# Altium footprint library connector.PcbLib: 80 footprints (part 1 of 5)
Each footprint in its own frame and in the unit in brackets; x right, y up, seen from the top. Pads: shape width x height; smd on the part's side, far side on the other; paste and mask are expansions set on the pad; w line width, h text height; cw(c..) or ccw(c..) is an arc to the next point about the centre after c.
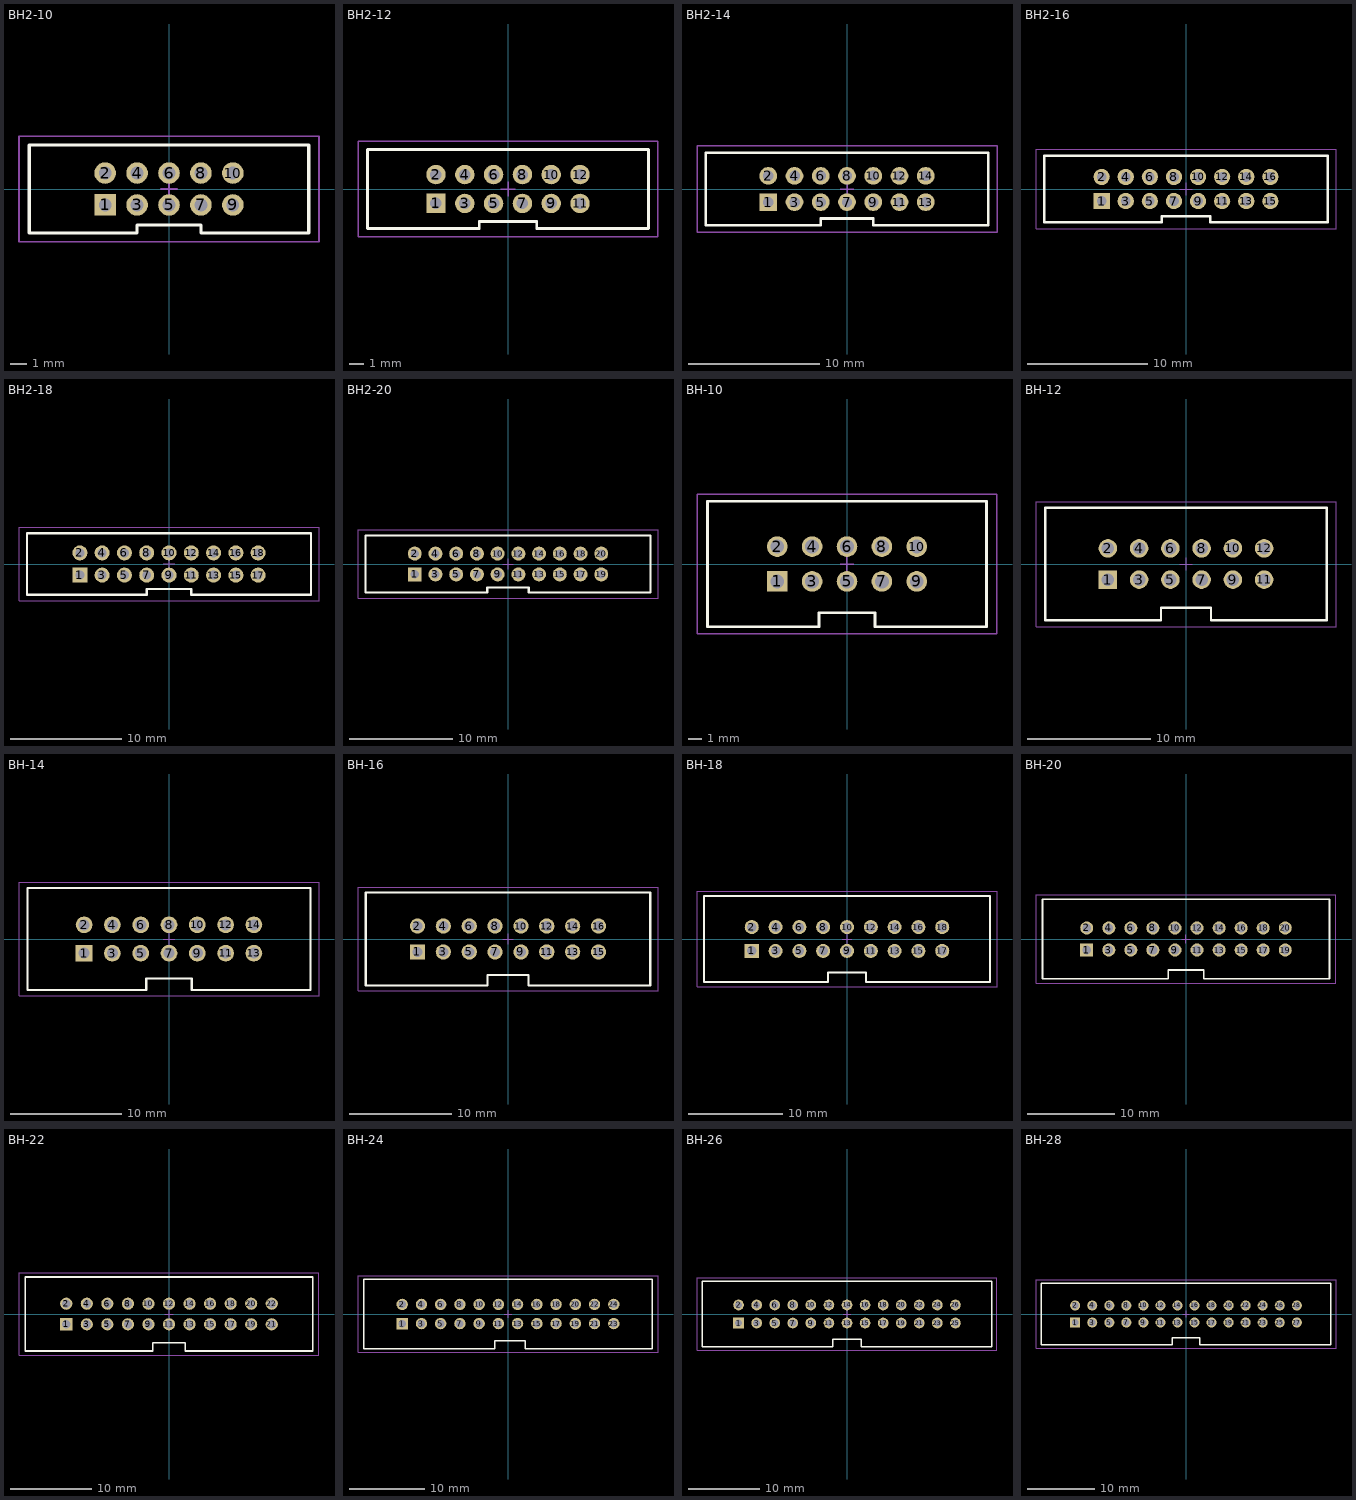
[diagram p0: the footprints below, top view; thin cyan lines are the x and y axes]

## BH2-10 [mm] "IDC2-XXMS Connector"
pads (10):
  rect 1.35x1.35 hole 0.8: 1(-4,-1)
  round 1.35 hole 0.8: 2(-4,1) 3(-2,-1) 4(-2,1) 5(0,-1) 6(0,1) 7(2,-1) 8(2,1) 9(4,-1) 10(4,1)
Top Overlay:
  lines w0.2: -8.75,-2.75 -8.75,2.75 8.75,2.75 8.75,-2.75 2,-2.75 2,-2.25 -2,-2.25 -2,-2.75 -8.75,-2.75
Mechanical 13:
  lines w0.1: -9.398,-3.302 9.398,-3.302 9.398,3.302 -9.398,3.302 -9.398,-3.302
  text ".Designator" at -2.286,-1.016 h2
Mechanical 15:
  lines w0.05: -9.398,-3.302 -9.398,3.302 9.398,3.302 9.398,-3.302 -9.398,-3.302
  lines w0.1: -0.5,0 0.5,0 ; 0,-0.5 0,0.5
3D body: height 5.8, standoff 0.1, extent 2,-2.75 8.75,-2.25
3D body: height 1, standoff 0.1, extent -8.25,-2.25 8.25,2.25
3D body: height 5.8, standoff 0.1, extent -8.75,-2.75 -2,-2.25
3D body: height 5.8, standoff 0.1, extent -8.758,2.25 8.75,2.75
3D body: height 5.8, standoff 0.1, extent -8.758,-2.25 -8.25,2.25
3D body: height 5.8, standoff 0.1, extent 8.25,-2.25 8.75,2.25
3D body: height 5.5, standoff -3.5, extent 3.75,0.75 4.25,1.25
3D body: height 5.5, standoff -3.5, extent 3.75,-1.25 4.25,-0.75
3D body: height 5.5, standoff -3.5, extent 1.75,0.75 2.25,1.25
3D body: height 5.5, standoff -3.5, extent 1.75,-1.25 2.25,-0.75
3D body: height 5.5, standoff -3.5, extent -0.25,0.75 0.25,1.25
3D body: height 5.5, standoff -3.5, extent -0.25,-1.25 0.25,-0.75
3D body: height 5.5, standoff -3.5, extent -2.25,0.75 -1.75,1.25
3D body: height 5.5, standoff -3.5, extent -2.25,-1.25 -1.75,-0.75
3D body: height 5.5, standoff -3.5, extent -4.25,0.75 -3.75,1.25
3D body: height 5.5, standoff -3.5, extent -4.25,-1.25 -3.75,-0.75

## BH2-12 [mm] "IDC2-XXMS Connector"
pads (12):
  rect 1.35x1.35 hole 0.8: 1(-5,-1)
  round 1.35 hole 0.8: 2(-5,1) 3(-3,-1) 4(-3,1) 5(-1,-1) 6(-1,1) 7(1,-1) 8(1,1) 9(3,-1) 10(3,1) 11(5,-1) 12(5,1)
Top Overlay:
  lines w0.2: -9.75,-2.75 -2,-2.75 -2,-2.25 2,-2.25 2,-2.75 9.75,-2.75 9.75,2.75 -9.75,2.75 -9.75,-2.75
Mechanical 13:
  lines w0.1: -10.414,-3.302 10.414,-3.302 10.414,3.302 -10.414,3.302 -10.414,-3.302
  text ".Designator" at -2.286,-1.016 h2
Mechanical 15:
  lines w0.05: -10.414,-3.302 -10.414,3.302 10.414,3.302 10.414,-3.302 -10.414,-3.302
  lines w0.1: -0.5,0 0.5,0 ; 0,-0.5 0,0.5
3D body: height 5.5, standoff -3.5, extent 4.75,-1.25 5.25,-0.75
3D body: height 5.5, standoff -3.5, extent 4.75,0.75 5.25,1.25
3D body: height 5.5, standoff -3.5, extent 2.75,-1.25 3.25,-0.75
3D body: height 5.5, standoff -3.5, extent 2.75,0.75 3.25,1.25
3D body: height 5.5, standoff -3.5, extent 0.75,-1.25 1.25,-0.75
3D body: height 5.5, standoff -3.5, extent 0.75,0.75 1.25,1.25
3D body: height 5.5, standoff -3.5, extent -1.25,-1.25 -0.75,-0.75
3D body: height 5.5, standoff -3.5, extent -1.25,0.75 -0.75,1.25
3D body: height 5.5, standoff -3.5, extent -3.25,-1.25 -2.75,-0.75
3D body: height 5.5, standoff -3.5, extent -3.25,0.75 -2.75,1.25
3D body: height 5.5, standoff -3.5, extent -5.25,-1.25 -4.75,-0.75
3D body: height 5.5, standoff -3.5, extent -5.25,0.75 -4.75,1.25
3D body: height 5.8, standoff 0.1, extent 2,-2.75 9.75,-2.25
3D body: height 5.8, standoff 0.1, extent 9.25,-2.25 9.75,2.25
3D body: height 5.8, standoff 0.1, extent -9.758,-2.25 -9.25,2.25
3D body: height 5.8, standoff 0.1, extent -9.758,2.25 9.75,2.75
3D body: height 5.8, standoff 0.1, extent -9.75,-2.75 -2,-2.25
3D body: height 1, standoff 0.1, extent -9.25,-2.25 9.25,2.25

## BH2-14 [mm] "IDC2-XXMS Connector"
pads (14):
  rect 1.35x1.35 hole 0.8: 1(-6,-1)
  round 1.35 hole 0.8: 2(-6,1) 3(-4,-1) 4(-4,1) 5(-2,-1) 6(-2,1) 7(0,-1) 8(0,1) 9(2,-1) 10(2,1) 11(4,-1) 12(4,1) 13(6,-1) 14(6,1)
Top Overlay:
  lines w0.2: -10.75,-2.75 -2,-2.75 -2,-2.25 2,-2.25 2,-2.75 10.75,-2.75 10.75,2.75 -10.75,2.75 -10.75,-2.75
Mechanical 13:
  lines w0.1: -11.43,-3.302 -11.43,3.302 11.43,3.302 11.43,-3.302 -11.43,-3.302
  text ".Designator" at -2.286,-1.016 h2
Mechanical 15:
  lines w0.05: -11.43,-3.302 -11.43,3.302 11.43,3.302 11.43,-3.302 -11.43,-3.302
  lines w0.1: -0.5,0 0.5,0 ; 0,-0.5 0,0.5
3D body: height 5.8, standoff 0.1, extent 2,-2.75 10.75,-2.25
3D body: height 5.8, standoff 0.1, extent 10.25,-2.25 10.75,2.25
3D body: height 5.8, standoff 0.1, extent -10.758,-2.25 -10.25,2.25
3D body: height 5.8, standoff 0.1, extent -10.758,2.25 10.75,2.75
3D body: height 5.8, standoff 0.1, extent -10.75,-2.75 -2,-2.25
3D body: height 1, standoff 0.1, extent -10.25,-2.25 10.25,2.25
3D body: height 5.5, standoff -3.5, extent 5.75,0.75 6.25,1.25
3D body: height 5.5, standoff -3.5, extent 5.75,-1.25 6.25,-0.75
3D body: height 5.5, standoff -3.5, extent 3.75,0.75 4.25,1.25
3D body: height 5.5, standoff -3.5, extent 3.75,-1.25 4.25,-0.75
3D body: height 5.5, standoff -3.5, extent 1.75,0.75 2.25,1.25
3D body: height 5.5, standoff -3.5, extent 1.75,-1.25 2.25,-0.75
3D body: height 5.5, standoff -3.5, extent -0.25,0.75 0.25,1.25
3D body: height 5.5, standoff -3.5, extent -0.25,-1.25 0.25,-0.75
3D body: height 5.5, standoff -3.5, extent -2.25,0.75 -1.75,1.25
3D body: height 5.5, standoff -3.5, extent -2.25,-1.25 -1.75,-0.75
3D body: height 5.5, standoff -3.5, extent -4.25,0.75 -3.75,1.25
3D body: height 5.5, standoff -3.5, extent -4.25,-1.25 -3.75,-0.75
3D body: height 5.5, standoff -3.5, extent -6.25,0.75 -5.75,1.25
3D body: height 5.5, standoff -3.5, extent -6.25,-1.25 -5.75,-0.75

## BH2-16 [mm] "IDC2-XXMS Connector"
pads (16):
  rect 1.35x1.35 hole 0.8: 1(-7,-1)
  round 1.35 hole 0.8: 2(-7,1) 3(-5,-1) 4(-5,1) 5(-3,-1) 6(-3,1) 7(-1,-1) 8(-1,1) 9(1,-1) 10(1,1) 11(3,-1) 12(3,1) 13(5,-1) 14(5,1) 15(7,-1) 16(7,1)
Top Overlay:
  lines w0.2: -11.75,-2.75 -2,-2.75 -2,-2.25 2,-2.25 2,-2.75 11.75,-2.75 11.75,2.75 -11.75,2.75 -11.75,-2.75
Mechanical 13:
  lines w0.1: -12.446,-3.302 12.446,-3.302 12.446,3.302 -12.446,3.302 -12.446,-3.302
  text ".Designator" at -2.286,-1.016 h2
Mechanical 15:
  lines w0.05: -12.446,-3.302 -12.446,3.302 12.446,3.302 12.446,-3.302 -12.446,-3.302
  lines w0.1: -0.5,0 0.5,0 ; 0,-0.5 0,0.5
3D body: height 5.5, standoff -3.5, extent 6.75,-1.25 7.25,-0.75
3D body: height 5.5, standoff -3.5, extent 6.75,0.75 7.25,1.25
3D body: height 5.5, standoff -3.5, extent 4.75,-1.25 5.25,-0.75
3D body: height 5.5, standoff -3.5, extent 4.75,0.75 5.25,1.25
3D body: height 5.5, standoff -3.5, extent 2.75,-1.25 3.25,-0.75
3D body: height 5.5, standoff -3.5, extent 2.75,0.75 3.25,1.25
3D body: height 5.5, standoff -3.5, extent 0.75,-1.25 1.25,-0.75
3D body: height 5.5, standoff -3.5, extent 0.75,0.75 1.25,1.25
3D body: height 5.5, standoff -3.5, extent -1.25,-1.25 -0.75,-0.75
3D body: height 5.5, standoff -3.5, extent -1.25,0.75 -0.75,1.25
3D body: height 5.5, standoff -3.5, extent -3.25,-1.25 -2.75,-0.75
3D body: height 5.5, standoff -3.5, extent -3.25,0.75 -2.75,1.25
3D body: height 5.5, standoff -3.5, extent -5.25,-1.25 -4.75,-0.75
3D body: height 5.5, standoff -3.5, extent -5.25,0.75 -4.75,1.25
3D body: height 5.5, standoff -3.5, extent -7.25,-1.25 -6.75,-0.75
3D body: height 5.5, standoff -3.5, extent -7.25,0.75 -6.75,1.25
3D body: height 5.8, standoff 0.1, extent 2,-2.75 11.75,-2.25
3D body: height 5.8, standoff 0.1, extent 11.25,-2.25 11.75,2.25
3D body: height 5.8, standoff 0.1, extent -11.758,-2.25 -11.25,2.25
3D body: height 5.8, standoff 0.1, extent -11.758,2.25 11.75,2.75
3D body: height 5.8, standoff 0.1, extent -11.75,-2.75 -2,-2.25
3D body: height 1, standoff 0.1, extent -11.25,-2.25 11.25,2.25

## BH2-18 [mm] "IDC2-XXMS Connector"
pads (18):
  rect 1.35x1.35 hole 0.8: 1(-8,-1)
  round 1.35 hole 0.8: 2(-8,1) 3(-6,-1) 4(-6,1) 5(-4,-1) 6(-4,1) 7(-2,-1) 8(-2,1) 9(0,-1) 10(0,1) 11(2,-1) 12(2,1) 13(4,-1) 14(4,1) 15(6,-1) 16(6,1) 17(8,-1) 18(8,1)
Top Overlay:
  lines w0.2: -12.75,-2.75 -2,-2.75 -2,-2.25 2,-2.25 2,-2.75 12.75,-2.75 12.75,2.75 -12.75,2.75 -12.75,-2.75
Mechanical 13:
  lines w0.1: -13.462,-3.302 -13.462,3.302 13.462,3.302 13.462,-3.302 -13.462,-3.302
  text ".Designator" at -2.286,-1.016 h2
Mechanical 15:
  lines w0.05: -13.462,-3.302 -13.462,3.302 13.462,3.302 13.462,-3.302 -13.462,-3.302
  lines w0.1: -0.5,0 0.5,0 ; 0,-0.5 0,0.5
3D body: height 5.8, standoff 0.1, extent 2,-2.75 12.75,-2.25
3D body: height 5.8, standoff 0.1, extent 12.25,-2.25 12.75,2.25
3D body: height 5.8, standoff 0.1, extent -12.758,-2.25 -12.25,2.25
3D body: height 5.8, standoff 0.1, extent -12.758,2.25 12.75,2.75
3D body: height 5.8, standoff 0.1, extent -12.75,-2.75 -2,-2.25
3D body: height 1, standoff 0.1, extent -12.25,-2.25 12.25,2.25
3D body: height 5.5, standoff -3.5, extent -8.25,0.75 -7.75,1.25
3D body: height 5.5, standoff -3.5, extent -8.25,-1.25 -7.75,-0.75
3D body: height 5.5, standoff -3.5, extent -6.25,0.75 -5.75,1.25
3D body: height 5.5, standoff -3.5, extent -6.25,-1.25 -5.75,-0.75
3D body: height 5.5, standoff -3.5, extent -4.25,0.75 -3.75,1.25
3D body: height 5.5, standoff -3.5, extent -4.25,-1.25 -3.75,-0.75
3D body: height 5.5, standoff -3.5, extent -2.25,0.75 -1.75,1.25
3D body: height 5.5, standoff -3.5, extent -2.25,-1.25 -1.75,-0.75
3D body: height 5.5, standoff -3.5, extent -0.25,0.75 0.25,1.25
3D body: height 5.5, standoff -3.5, extent -0.25,-1.25 0.25,-0.75
3D body: height 5.5, standoff -3.5, extent 1.75,0.75 2.25,1.25
3D body: height 5.5, standoff -3.5, extent 1.75,-1.25 2.25,-0.75
3D body: height 5.5, standoff -3.5, extent 3.75,0.75 4.25,1.25
3D body: height 5.5, standoff -3.5, extent 3.75,-1.25 4.25,-0.75
3D body: height 5.5, standoff -3.5, extent 5.75,0.75 6.25,1.25
3D body: height 5.5, standoff -3.5, extent 5.75,-1.25 6.25,-0.75
3D body: height 5.5, standoff -3.5, extent 7.75,0.75 8.25,1.25
3D body: height 5.5, standoff -3.5, extent 7.75,-1.25 8.25,-0.75

## BH2-20 [mm] "IDC2-XXMS Connector"
pads (20):
  rect 1.35x1.35 hole 0.8: 1(-9,-1)
  round 1.35 hole 0.8: 2(-9,1) 3(-7,-1) 4(-7,1) 5(-5,-1) 6(-5,1) 7(-3,-1) 8(-3,1) 9(-1,-1) 10(-1,1) 11(1,-1) 12(1,1) 13(3,-1) 14(3,1) 15(5,-1) 16(5,1) 17(7,-1) 18(7,1) 19(9,-1) 20(9,1)
Top Overlay:
  lines w0.2: -13.75,-2.75 -2,-2.75 -2,-2.25 2,-2.25 2,-2.75 13.75,-2.75 13.75,2.75 -13.75,2.75 -13.75,-2.75
Mechanical 13:
  lines w0.1: -14.478,-3.302 -14.478,3.302 14.478,3.302 14.478,-3.302 -14.478,-3.302
  text ".Designator" at -2.286,-1.016 h2
Mechanical 15:
  lines w0.05: -14.478,-3.302 -14.478,3.302 14.478,3.302 14.478,-3.302 -14.478,-3.302
  lines w0.1: -0.5,0 0.5,0 ; 0,-0.5 0,0.5
3D body: height 5.5, standoff -3.5, extent 8.75,-1.25 9.25,-0.75
3D body: height 5.5, standoff -3.5, extent 8.75,0.75 9.25,1.25
3D body: height 5.5, standoff -3.5, extent 6.75,0.75 7.25,1.25
3D body: height 5.5, standoff -3.5, extent 6.75,-1.25 7.25,-0.75
3D body: height 5.5, standoff -3.5, extent 4.75,-1.25 5.25,-0.75
3D body: height 5.5, standoff -3.5, extent 4.75,0.75 5.25,1.25
3D body: height 5.5, standoff -3.5, extent 2.75,0.75 3.25,1.25
3D body: height 5.5, standoff -3.5, extent 2.75,-1.25 3.25,-0.75
3D body: height 5.5, standoff -3.5, extent 0.75,-1.25 1.25,-0.75
3D body: height 5.5, standoff -3.5, extent 0.75,0.75 1.25,1.25
3D body: height 5.5, standoff -3.5, extent -1.25,0.75 -0.75,1.25
3D body: height 5.5, standoff -3.5, extent -1.25,-1.25 -0.75,-0.75
3D body: height 5.5, standoff -3.5, extent -3.25,0.75 -2.75,1.25
3D body: height 5.5, standoff -3.5, extent -3.25,-1.25 -2.75,-0.75
3D body: height 5.5, standoff -3.5, extent -5.25,-1.25 -4.75,-0.75
3D body: height 5.5, standoff -3.5, extent -5.25,0.75 -4.75,1.25
3D body: height 5.5, standoff -3.5, extent -7.25,0.75 -6.75,1.25
3D body: height 5.5, standoff -3.5, extent -7.25,-1.25 -6.75,-0.75
3D body: height 5.5, standoff -3.5, extent -9.25,0.75 -8.75,1.25
3D body: height 5.5, standoff -3.5, extent -9.25,-1.25 -8.75,-0.75
3D body: height 1, standoff 0.1, extent -13.25,-2.25 13.25,2.25
3D body: height 5.8, standoff 0.1, extent -13.75,-2.75 -2,-2.25
3D body: height 5.8, standoff 0.1, extent 1.996,-2.746 13.75,-2.25
3D body: height 5.8, standoff 0.1, extent -13.758,2.25 13.75,2.75
3D body: height 5.8, standoff 0.1, extent -13.758,-2.25 -13.25,2.25
3D body: height 5.8, standoff 0.1, extent 13.25,-2.25 13.75,2.25

## BH-10 [mm]
pads (10):
  rect 1.5x1.5 hole 1: 1(-5.08,-1.27)
  round 1.5 hole 1: 2(-5.08,1.27) 3(-2.54,-1.27) 4(-2.54,1.27) 5(0,-1.27) 6(0,1.27) 7(2.54,-1.27) 8(2.54,1.27) 9(5.08,-1.27) 10(5.08,1.27)
Top Overlay:
  lines w0.2: -10.16,-4.572 -10.16,4.572 10.16,4.572 10.16,-4.572 2.032,-4.572 2.032,-3.556 -2.032,-3.556 -2.032,-4.572 -10.16,-4.572
Mechanical 13:
  lines w0.1: -10.922,-5.08 10.922,-5.08 10.922,5.08 -10.922,5.08 -10.922,-5.08
  text ".Designator" at -2.286,-1.016 h2
Mechanical 15:
  lines w0.05: -10.922,-5.08 10.922,-5.08 10.922,5.08 -10.922,5.08 -10.922,-5.08
  lines w0.1: -0.5,0 0.5,0 ; 0,-0.5 0,0.5
3D body: height 8.5, standoff -3, extent 4.699,0.889 5.461,1.651
3D body: height 8.5, standoff -3, extent 4.699,-1.651 5.461,-0.889
3D body: height 8.5, standoff -3, extent 2.159,-1.651 2.921,-0.889
3D body: height 8.5, standoff -3, extent 2.159,0.889 2.921,1.651
3D body: height 8.5, standoff -3, extent -0.381,0.889 0.381,1.651
3D body: height 8.5, standoff -3, extent -0.381,-1.651 0.381,-0.889
3D body: height 8.5, standoff -3, extent -2.921,0.889 -2.159,1.651
3D body: height 8.5, standoff -3, extent -2.921,-1.651 -2.159,-0.889
3D body: height 8.5, standoff -3, extent -5.461,-1.651 -4.699,-0.889
3D body: height 8.5, standoff -3, extent -5.461,0.889 -4.699,1.651
3D body: height 9, standoff 1, extent 9.144,-3.556 10.16,3.556
3D body: height 9, standoff 1, extent -10.16,-3.556 -9.144,3.556
3D body: height 9, standoff 1, extent -10.16,3.556 10.16,4.572
3D body: height 9, standoff 1, extent 2.032,-4.572 10.16,-3.556
3D body: height 9, standoff 1, extent -10.16,-4.572 -2.032,-3.556
3D body: height 1, standoff 0, extent -10.16,-4.572 10.16,4.572

## BH-12 [mm]
pads (12):
  rect 1.5x1.5 hole 1: 1(-6.35,-1.27)
  round 1.5 hole 1: 2(-6.35,1.27) 3(-3.81,-1.27) 4(-3.81,1.27) 5(-1.27,-1.27) 6(-1.27,1.27) 7(1.27,-1.27) 8(1.27,1.27) 9(3.81,-1.27) 10(3.81,1.27) 11(6.35,-1.27) 12(6.35,1.27)
Top Overlay:
  lines w0.2: -11.43,-4.572 -11.43,4.572 11.43,4.572 11.43,-4.572 2.032,-4.572 2.032,-3.556 -2.032,-3.556 -2.032,-4.572 -11.43,-4.572
Mechanical 13:
  lines w0.1: -12.192,-5.08 12.192,-5.08 12.192,5.08 -12.192,5.08 -12.192,-5.08
  text ".Designator" at -2.286,-1.016 h2
Mechanical 15:
  lines w0.05: -12.192,-5.08 12.192,-5.08 12.192,5.08 -12.192,5.08 -12.192,-5.08
  lines w0.1: -0.5,0 0.5,0 ; 0,-0.5 0,0.5
3D body: height 8.5, standoff -3, extent 5.969,0.889 6.731,1.651
3D body: height 8.5, standoff -3, extent 5.969,-1.651 6.731,-0.889
3D body: height 8.5, standoff -3, extent 3.429,0.889 4.191,1.651
3D body: height 8.5, standoff -3, extent 3.429,-1.651 4.191,-0.889
3D body: height 8.5, standoff -3, extent 0.889,0.889 1.651,1.651
3D body: height 8.5, standoff -3, extent 0.889,-1.651 1.651,-0.889
3D body: height 8.5, standoff -3, extent -1.651,0.889 -0.889,1.651
3D body: height 8.5, standoff -3, extent -1.651,-1.651 -0.889,-0.889
3D body: height 8.5, standoff -3, extent -4.191,0.889 -3.429,1.651
3D body: height 8.5, standoff -3, extent -4.191,-1.651 -3.429,-0.889
3D body: height 8.5, standoff -3, extent -6.731,0.889 -5.969,1.651
3D body: height 8.5, standoff -3, extent -6.731,-1.651 -5.969,-0.889
3D body: height 1, standoff 0, extent -11.43,-4.572 11.43,4.572
3D body: height 9, standoff 1, extent -11.43,-4.572 -2.032,-3.556
3D body: height 9, standoff 1, extent 2.032,-4.572 11.43,-3.556
3D body: height 9, standoff 1, extent -11.43,3.556 11.43,4.572
3D body: height 9, standoff 1, extent -11.43,-3.556 -10.414,3.556
3D body: height 9, standoff 1, extent 10.414,-3.556 11.43,3.556

## BH-14 [mm]
pads (14):
  rect 1.5x1.5 hole 1: 1(-7.62,-1.27)
  round 1.5 hole 1: 2(-7.62,1.27) 3(-5.08,-1.27) 4(-5.08,1.27) 5(-2.54,-1.27) 6(-2.54,1.27) 7(0,-1.27) 8(0,1.27) 9(2.54,-1.27) 10(2.54,1.27) 11(5.08,-1.27) 12(5.08,1.27) 13(7.62,-1.27) 14(7.62,1.27)
Top Overlay:
  lines w0.2: -12.7,-4.572 -2.032,-4.572 -2.032,-3.556 2.032,-3.556 2.032,-4.572 12.7,-4.572 12.7,4.572 -12.7,4.572 -12.7,-4.572
Mechanical 13:
  lines w0.1: -13.462,-5.08 -13.462,5.08 13.462,5.08 13.462,-5.08 -13.462,-5.08
  text ".Designator" at -2.286,-1.016 h2
Mechanical 15:
  lines w0.05: -13.462,-5.08 -13.462,5.08 13.462,5.08 13.462,-5.08 -13.462,-5.08
  lines w0.1: -0.5,0 0.5,0 ; 0,-0.5 0,0.5
3D body: height 1, standoff 0, extent -12.7,-4.572 12.7,4.572
3D body: height 9, standoff 1, extent -12.7,-4.572 -2.032,-3.556
3D body: height 9, standoff 1, extent 2.032,-4.572 12.7,-3.556
3D body: height 9, standoff 1, extent -12.7,3.556 12.7,4.572
3D body: height 9, standoff 1, extent -12.7,-3.556 -11.684,3.556
3D body: height 9, standoff 1, extent 11.684,-3.556 12.7,3.556
3D body: height 8.5, standoff -3, extent -8.001,-1.651 -7.239,-0.889
3D body: height 8.5, standoff -3, extent -8.001,0.889 -7.239,1.651
3D body: height 8.5, standoff -3, extent -5.461,-1.651 -4.699,-0.889
3D body: height 8.5, standoff -3, extent -5.461,0.889 -4.699,1.651
3D body: height 8.5, standoff -3, extent -2.921,-1.651 -2.159,-0.889
3D body: height 8.5, standoff -3, extent -2.921,0.889 -2.159,1.651
3D body: height 8.5, standoff -3, extent -0.381,-1.651 0.381,-0.889
3D body: height 8.5, standoff -3, extent -0.381,0.889 0.381,1.651
3D body: height 8.5, standoff -3, extent 2.159,-1.651 2.921,-0.889
3D body: height 8.5, standoff -3, extent 2.159,0.889 2.921,1.651
3D body: height 8.5, standoff -3, extent 4.699,-1.651 5.461,-0.889
3D body: height 8.5, standoff -3, extent 4.699,0.889 5.461,1.651
3D body: height 8.5, standoff -3, extent 7.239,-1.651 8.001,-0.889
3D body: height 8.5, standoff -3, extent 7.239,0.889 8.001,1.651

## BH-16 [mm]
pads (16):
  rect 1.5x1.5 hole 1: 1(-8.89,-1.27)
  round 1.5 hole 1: 2(-8.89,1.27) 3(-6.35,-1.27) 4(-6.35,1.27) 5(-3.81,-1.27) 6(-3.81,1.27) 7(-1.27,-1.27) 8(-1.27,1.27) 9(1.27,-1.27) 10(1.27,1.27) 11(3.81,-1.27) 12(3.81,1.27) 13(6.35,-1.27) 14(6.35,1.27) 15(8.89,-1.27) 16(8.89,1.27)
Top Overlay:
  lines w0.2: -13.97,-4.572 -13.97,4.572 13.97,4.572 13.97,-4.572 2.032,-4.572 2.032,-3.556 -2.032,-3.556 -2.032,-4.572 -13.97,-4.572
Mechanical 13:
  lines w0.1: -14.732,-5.08 -14.732,5.08 14.732,5.08 14.732,-5.08 -14.732,-5.08
  text ".Designator" at -2.286,-1.016 h2
Mechanical 15:
  lines w0.05: -14.732,-5.08 -14.732,5.08 14.732,5.08 14.732,-5.08 -14.732,-5.08
  lines w0.1: -0.5,0 0.5,0 ; 0,-0.5 0,0.5
3D body: height 8.5, standoff -3, extent 8.509,0.889 9.271,1.651
3D body: height 8.5, standoff -3, extent 8.509,-1.651 9.271,-0.889
3D body: height 8.5, standoff -3, extent 5.969,0.889 6.731,1.651
3D body: height 8.5, standoff -3, extent 5.969,-1.651 6.731,-0.889
3D body: height 8.5, standoff -3, extent 3.429,0.889 4.191,1.651
3D body: height 8.5, standoff -3, extent 3.429,-1.651 4.191,-0.889
3D body: height 8.5, standoff -3, extent 0.889,0.889 1.651,1.651
3D body: height 8.5, standoff -3, extent 0.889,-1.651 1.651,-0.889
3D body: height 8.5, standoff -3, extent -1.651,0.889 -0.889,1.651
3D body: height 8.5, standoff -3, extent -1.651,-1.651 -0.889,-0.889
3D body: height 8.5, standoff -3, extent -4.191,0.889 -3.429,1.651
3D body: height 8.5, standoff -3, extent -4.191,-1.651 -3.429,-0.889
3D body: height 8.5, standoff -3, extent -6.731,0.889 -5.969,1.651
3D body: height 8.5, standoff -3, extent -6.731,-1.651 -5.969,-0.889
3D body: height 8.5, standoff -3, extent -9.271,0.889 -8.509,1.651
3D body: height 8.5, standoff -3, extent -9.271,-1.651 -8.509,-0.889
3D body: height 1, standoff 0, extent -13.97,-4.572 13.97,4.572
3D body: height 9, standoff 1, extent -13.97,-4.572 -2.032,-3.556
3D body: height 9, standoff 1, extent 2.032,-4.572 13.97,-3.556
3D body: height 9, standoff 1, extent -13.97,3.556 13.97,4.572
3D body: height 9, standoff 1, extent -13.97,-3.556 -12.954,3.556
3D body: height 9, standoff 1, extent 12.954,-3.556 13.97,3.556

## BH-18 [mm]
pads (18):
  rect 1.5x1.5 hole 1: 1(-10.16,-1.27)
  round 1.5 hole 1: 2(-10.16,1.27) 3(-7.62,-1.27) 4(-7.62,1.27) 5(-5.08,-1.27) 6(-5.08,1.27) 7(-2.54,-1.27) 8(-2.54,1.27) 9(0,-1.27) 10(0,1.27) 11(2.54,-1.27) 12(2.54,1.27) 13(5.08,-1.27) 14(5.08,1.27) 15(7.62,-1.27) 16(7.62,1.27) 17(10.16,-1.27) 18(10.16,1.27)
Top Overlay:
  lines w0.2: -15.24,-4.572 -15.24,4.572 15.24,4.572 15.24,-4.572 2.032,-4.572 2.032,-3.556 -2.032,-3.556 -2.032,-4.572 -15.24,-4.572
Mechanical 13:
  lines w0.1: -16.002,-5.08 16.002,-5.08 16.002,5.08 -16.002,5.08 -16.002,-5.08
  text ".Designator" at -2.286,-1.016 h2
Mechanical 15:
  lines w0.05: -16.002,-5.08 16.002,-5.08 16.002,5.08 -16.002,5.08 -16.002,-5.08
  lines w0.1: -0.5,0 0.5,0 ; 0,-0.5 0,0.5
3D body: height 8.5, standoff -3, extent 9.779,0.889 10.541,1.651
3D body: height 8.5, standoff -3, extent 9.779,-1.651 10.541,-0.889
3D body: height 8.5, standoff -3, extent 7.239,0.889 8.001,1.651
3D body: height 8.5, standoff -3, extent 7.239,-1.651 8.001,-0.889
3D body: height 8.5, standoff -3, extent 4.699,0.889 5.461,1.651
3D body: height 8.5, standoff -3, extent 4.699,-1.651 5.461,-0.889
3D body: height 8.5, standoff -3, extent 2.159,0.889 2.921,1.651
3D body: height 8.5, standoff -3, extent 2.159,-1.651 2.921,-0.889
3D body: height 8.5, standoff -3, extent -0.381,0.889 0.381,1.651
3D body: height 8.5, standoff -3, extent -0.381,-1.651 0.381,-0.889
3D body: height 8.5, standoff -3, extent -2.921,0.889 -2.159,1.651
3D body: height 8.5, standoff -3, extent -2.921,-1.651 -2.159,-0.889
3D body: height 8.5, standoff -3, extent -5.461,0.889 -4.699,1.651
3D body: height 8.5, standoff -3, extent -5.461,-1.651 -4.699,-0.889
3D body: height 8.5, standoff -3, extent -8.001,0.889 -7.239,1.651
3D body: height 8.5, standoff -3, extent -8.001,-1.651 -7.239,-0.889
3D body: height 8.5, standoff -3, extent -10.541,0.889 -9.779,1.651
3D body: height 8.5, standoff -3, extent -10.541,-1.651 -9.779,-0.889
3D body: height 9, standoff 1, extent 14.224,-3.556 15.24,3.556
3D body: height 9, standoff 1, extent -15.24,-3.556 -14.224,3.556
3D body: height 9, standoff 1, extent -15.24,3.556 15.24,4.572
3D body: height 9, standoff 1, extent 2.032,-4.572 15.24,-3.556
3D body: height 9, standoff 1, extent -15.24,-4.572 -2.032,-3.556
3D body: height 1, standoff 0, extent -15.24,-4.572 15.24,4.572

## BH-20 [mm]
pads (20):
  rect 1.5x1.5 hole 1: 1(-11.43,-1.27)
  round 1.5 hole 1: 2(-11.43,1.27) 3(-8.89,-1.27) 4(-8.89,1.27) 5(-6.35,-1.27) 6(-6.35,1.27) 7(-3.81,-1.27) 8(-3.81,1.27) 9(-1.27,-1.27) 10(-1.27,1.27) 11(1.27,-1.27) 12(1.27,1.27) 13(3.81,-1.27) 14(3.81,1.27) 15(6.35,-1.27) 16(6.35,1.27) 17(8.89,-1.27) 18(8.89,1.27) 19(11.43,-1.27) 20(11.43,1.27)
Top Overlay:
  lines w0.2: -16.51,-4.572 -2.032,-4.572 -2.032,-3.556 2.032,-3.556 2.032,-4.572 16.51,-4.572 16.51,4.572 -16.51,4.572 -16.51,-4.572
Mechanical 13:
  lines w0.1: -17.272,-5.08 17.272,-5.08 17.272,5.08 -17.272,5.08 -17.272,-5.08
  text ".Designator" at -2.032,-1.016 h2
Mechanical 15:
  lines w0.05: -17.272,-5.08 -17.272,5.08 17.272,5.08 17.272,-5.08 -17.272,-5.08
  lines w0.1: -0.5,0 0.5,0 ; 0,-0.5 0,0.5
3D body: height 1, standoff 0, extent -16.51,-4.572 16.51,4.572
3D body: height 9, standoff 1, extent -16.51,-4.572 -2.032,-3.556
3D body: height 9, standoff 1, extent 2.032,-4.572 16.51,-3.556
3D body: height 9, standoff 1, extent -16.51,3.556 16.51,4.572
3D body: height 9, standoff 1, extent -16.51,-3.556 -15.494,3.556
3D body: height 9, standoff 1, extent 15.494,-3.556 16.51,3.556
3D body: height 8.5, standoff -3, extent -11.811,-1.651 -11.049,-0.889
3D body: height 8.5, standoff -3, extent -11.811,0.889 -11.049,1.651
3D body: height 8.5, standoff -3, extent -9.271,-1.651 -8.509,-0.889
3D body: height 8.5, standoff -3, extent -9.271,0.889 -8.509,1.651
3D body: height 8.5, standoff -3, extent -6.731,-1.651 -5.969,-0.889
3D body: height 8.5, standoff -3, extent -6.731,0.889 -5.969,1.651
3D body: height 8.5, standoff -3, extent -4.191,-1.651 -3.429,-0.889
3D body: height 8.5, standoff -3, extent -4.191,0.889 -3.429,1.651
3D body: height 8.5, standoff -3, extent -1.651,-1.651 -0.889,-0.889
3D body: height 8.5, standoff -3, extent -1.651,0.889 -0.889,1.651
3D body: height 8.5, standoff -3, extent 0.889,-1.651 1.651,-0.889
3D body: height 8.5, standoff -3, extent 0.889,0.889 1.651,1.651
3D body: height 8.5, standoff -3, extent 3.429,-1.651 4.191,-0.889
3D body: height 8.5, standoff -3, extent 3.429,0.889 4.191,1.651
3D body: height 8.5, standoff -3, extent 5.969,-1.651 6.731,-0.889
3D body: height 8.5, standoff -3, extent 5.969,0.889 6.731,1.651
3D body: height 8.5, standoff -3, extent 8.509,-1.651 9.271,-0.889
3D body: height 8.5, standoff -3, extent 8.509,0.889 9.271,1.651
3D body: height 8.5, standoff -3, extent 11.049,-1.651 11.811,-0.889
3D body: height 8.5, standoff -3, extent 11.049,0.889 11.811,1.651

## BH-22 [mm]
pads (22):
  rect 1.5x1.5 hole 1: 1(-12.7,-1.27)
  round 1.5 hole 1: 2(-12.7,1.27) 3(-10.16,-1.27) 4(-10.16,1.27) 5(-7.62,-1.27) 6(-7.62,1.27) 7(-5.08,-1.27) 8(-5.08,1.27) 9(-2.54,-1.27) 10(-2.54,1.27) 11(0,-1.27) 12(0,1.27) 13(2.54,-1.27) 14(2.54,1.27) 15(5.08,-1.27) 16(5.08,1.27) 17(7.62,-1.27) 18(7.62,1.27) 19(10.16,-1.27) 20(10.16,1.27) 21(12.7,-1.27) 22(12.7,1.27)
Top Overlay:
  lines w0.2: -17.78,-4.572 -2.032,-4.572 -2.032,-3.556 2.032,-3.556 2.032,-4.572 17.78,-4.572 17.78,4.572 -17.78,4.572 -17.78,-4.572
Mechanical 13:
  lines w0.1: -18.542,-5.08 -18.542,5.08 18.542,5.08 18.542,-5.08 -18.542,-5.08
  text ".Designator" at -2.032,-1.016 h2
Mechanical 15:
  lines w0.05: -18.542,-5.08 18.542,-5.08 18.542,5.08 -18.542,5.08 -18.542,-5.08
  lines w0.1: -0.5,0 0.5,0 ; 0,-0.5 0,0.5
3D body: height 9, standoff 1, extent 16.764,-3.556 17.78,3.556
3D body: height 9, standoff 1, extent -17.78,-3.556 -16.764,3.556
3D body: height 9, standoff 1, extent -17.78,3.556 17.78,4.572
3D body: height 9, standoff 1, extent 2.032,-4.572 17.78,-3.556
3D body: height 9, standoff 1, extent -17.78,-4.572 -2.032,-3.556
3D body: height 1, standoff 0, extent -17.78,-4.572 17.78,4.572
3D body: height 8.5, standoff -3, extent -13.081,-1.651 -12.319,-0.889
3D body: height 8.5, standoff -3, extent -13.081,0.889 -12.319,1.651
3D body: height 8.5, standoff -3, extent -10.541,-1.651 -9.779,-0.889
3D body: height 8.5, standoff -3, extent -10.541,0.889 -9.779,1.651
3D body: height 8.5, standoff -3, extent -8.001,-1.651 -7.239,-0.889
3D body: height 8.5, standoff -3, extent -8.001,0.889 -7.239,1.651
3D body: height 8.5, standoff -3, extent -5.461,-1.651 -4.699,-0.889
3D body: height 8.5, standoff -3, extent -5.461,0.889 -4.699,1.651
3D body: height 8.5, standoff -3, extent -2.921,-1.651 -2.159,-0.889
3D body: height 8.5, standoff -3, extent -2.921,0.889 -2.159,1.651
3D body: height 8.5, standoff -3, extent -0.381,-1.651 0.381,-0.889
3D body: height 8.5, standoff -3, extent -0.381,0.889 0.381,1.651
3D body: height 8.5, standoff -3, extent 2.159,-1.651 2.921,-0.889
3D body: height 8.5, standoff -3, extent 2.159,0.889 2.921,1.651
3D body: height 8.5, standoff -3, extent 4.699,-1.651 5.461,-0.889
3D body: height 8.5, standoff -3, extent 4.699,0.889 5.461,1.651
3D body: height 8.5, standoff -3, extent 7.239,-1.651 8.001,-0.889
3D body: height 8.5, standoff -3, extent 7.239,0.889 8.001,1.651
3D body: height 8.5, standoff -3, extent 9.779,-1.651 10.541,-0.889
3D body: height 8.5, standoff -3, extent 9.779,0.889 10.541,1.651
3D body: height 8.5, standoff -3, extent 12.319,-1.651 13.081,-0.889
3D body: height 8.5, standoff -3, extent 12.319,0.889 13.081,1.651

## BH-24 [mm]
pads (24):
  rect 1.5x1.5 hole 1: 1(-13.97,-1.27)
  round 1.5 hole 1: 2(-13.97,1.27) 3(-11.43,-1.27) 4(-11.43,1.27) 5(-8.89,-1.27) 6(-8.89,1.27) 7(-6.35,-1.27) 8(-6.35,1.27) 9(-3.81,-1.27) 10(-3.81,1.27) 11(-1.27,-1.27) 12(-1.27,1.27) 13(1.27,-1.27) 14(1.27,1.27) 15(3.81,-1.27) 16(3.81,1.27) 17(6.35,-1.27) 18(6.35,1.27) 19(8.89,-1.27) 20(8.89,1.27) 21(11.43,-1.27) 22(11.43,1.27) 23(13.97,-1.27) 24(13.97,1.27)
Top Overlay:
  lines w0.2: -19.05,-4.572 -19.05,4.572 19.05,4.572 19.05,-4.572 2.286,-4.572 2.286,-3.556 -1.778,-3.556 -1.778,-4.572 -19.05,-4.572
Mechanical 13:
  lines w0.1: -19.812,-5.08 -19.812,5.08 19.812,5.08 19.812,-5.08 -19.812,-5.08
  text ".Designator" at -2.032,-1.016 h2
Mechanical 15:
  lines w0.05: -19.812,-5.08 -19.812,5.08 19.812,5.08 19.812,-5.08 -19.812,-5.08
  lines w0.1: -0.5,0 0.5,0 ; 0,-0.5 0,0.5
3D body: height 9, standoff 1, extent 18.034,-3.556 19.05,3.556
3D body: height 9, standoff 1, extent -19.05,-3.556 -18.034,3.556
3D body: height 9, standoff 1, extent -19.05,3.556 19.05,4.572
3D body: height 9, standoff 1, extent 2.032,-4.572 19.05,-3.556
3D body: height 9, standoff 1, extent -19.05,-4.572 -2.032,-3.556
3D body: height 1, standoff 0, extent -19.05,-4.572 19.05,4.572
3D body: height 8.5, standoff -3, extent -14.351,-1.651 -13.589,-0.889
3D body: height 8.5, standoff -3, extent -14.351,0.889 -13.589,1.651
3D body: height 8.5, standoff -3, extent -11.811,-1.651 -11.049,-0.889
3D body: height 8.5, standoff -3, extent -11.811,0.889 -11.049,1.651
3D body: height 8.5, standoff -3, extent -9.271,-1.651 -8.509,-0.889
3D body: height 8.5, standoff -3, extent -9.271,0.889 -8.509,1.651
3D body: height 8.5, standoff -3, extent -6.731,-1.651 -5.969,-0.889
3D body: height 8.5, standoff -3, extent -6.731,0.889 -5.969,1.651
3D body: height 8.5, standoff -3, extent -4.191,-1.651 -3.429,-0.889
3D body: height 8.5, standoff -3, extent -4.191,0.889 -3.429,1.651
3D body: height 8.5, standoff -3, extent -1.651,-1.651 -0.889,-0.889
3D body: height 8.5, standoff -3, extent -1.651,0.889 -0.889,1.651
3D body: height 8.5, standoff -3, extent 0.889,-1.651 1.651,-0.889
3D body: height 8.5, standoff -3, extent 0.889,0.889 1.651,1.651
3D body: height 8.5, standoff -3, extent 3.429,-1.651 4.191,-0.889
3D body: height 8.5, standoff -3, extent 3.429,0.889 4.191,1.651
3D body: height 8.5, standoff -3, extent 5.969,-1.651 6.731,-0.889
3D body: height 8.5, standoff -3, extent 5.969,0.889 6.731,1.651
3D body: height 8.5, standoff -3, extent 8.509,-1.651 9.271,-0.889
3D body: height 8.5, standoff -3, extent 8.509,0.889 9.271,1.651
3D body: height 8.5, standoff -3, extent 11.049,-1.651 11.811,-0.889
3D body: height 8.5, standoff -3, extent 11.049,0.889 11.811,1.651
3D body: height 8.5, standoff -3, extent 13.589,-1.651 14.351,-0.889
3D body: height 8.5, standoff -3, extent 13.589,0.889 14.351,1.651

## BH-26 [mm]
pads (26):
  rect 1.5x1.5 hole 1: 1(-15.24,-1.27)
  round 1.5 hole 1: 2(-15.24,1.27) 3(-12.7,-1.27) 4(-12.7,1.27) 5(-10.16,-1.27) 6(-10.16,1.27) 7(-7.62,-1.27) 8(-7.62,1.27) 9(-5.08,-1.27) 10(-5.08,1.27) 11(-2.54,-1.27) 12(-2.54,1.27) 13(0,-1.27) 14(0,1.27) 15(2.54,-1.27) 16(2.54,1.27) 17(5.08,-1.27) 18(5.08,1.27) 19(7.62,-1.27) 20(7.62,1.27) 21(10.16,-1.27) 22(10.16,1.27) 23(12.7,-1.27) 24(12.7,1.27) 25(15.24,-1.27) 26(15.24,1.27)
Top Overlay:
  lines w0.2: -20.32,-4.572 -2.032,-4.572 -2.032,-3.556 2.032,-3.556 2.032,-4.572 20.32,-4.572 20.32,4.572 -20.32,4.572 -20.32,-4.572
Mechanical 13:
  lines w0.1: -21.082,-5.08 21.082,-5.08 21.082,5.08 -21.082,5.08 -21.082,-5.08
  text ".Designator" at -2.032,-1.016 h2
Mechanical 15:
  lines w0.05: -21.082,-5.08 21.082,-5.08 21.082,5.08 -21.082,5.08 -21.082,-5.08
  lines w0.1: -0.5,0 0.5,0 ; 0,-0.5 0,0.5
3D body: height 8.5, standoff -3, extent 14.859,0.889 15.621,1.651
3D body: height 8.5, standoff -3, extent 14.859,-1.651 15.621,-0.889
3D body: height 8.5, standoff -3, extent 12.319,0.889 13.081,1.651
3D body: height 8.5, standoff -3, extent 12.319,-1.651 13.081,-0.889
3D body: height 8.5, standoff -3, extent 9.779,0.889 10.541,1.651
3D body: height 8.5, standoff -3, extent 9.779,-1.651 10.541,-0.889
3D body: height 8.5, standoff -3, extent 7.239,0.889 8.001,1.651
3D body: height 8.5, standoff -3, extent 7.239,-1.651 8.001,-0.889
3D body: height 8.5, standoff -3, extent 4.699,0.889 5.461,1.651
3D body: height 8.5, standoff -3, extent 4.699,-1.651 5.461,-0.889
3D body: height 8.5, standoff -3, extent 2.159,0.889 2.921,1.651
3D body: height 8.5, standoff -3, extent 2.159,-1.651 2.921,-0.889
3D body: height 8.5, standoff -3, extent -0.381,0.889 0.381,1.651
3D body: height 8.5, standoff -3, extent -0.381,-1.651 0.381,-0.889
3D body: height 8.5, standoff -3, extent -2.921,0.889 -2.159,1.651
3D body: height 8.5, standoff -3, extent -2.921,-1.651 -2.159,-0.889
3D body: height 8.5, standoff -3, extent -5.461,0.889 -4.699,1.651
3D body: height 8.5, standoff -3, extent -5.461,-1.651 -4.699,-0.889
3D body: height 8.5, standoff -3, extent -8.001,0.889 -7.239,1.651
3D body: height 8.5, standoff -3, extent -8.001,-1.651 -7.239,-0.889
3D body: height 8.5, standoff -3, extent -10.541,0.889 -9.779,1.651
3D body: height 8.5, standoff -3, extent -10.541,-1.651 -9.779,-0.889
3D body: height 8.5, standoff -3, extent -13.081,0.889 -12.319,1.651
3D body: height 8.5, standoff -3, extent -13.081,-1.651 -12.319,-0.889
3D body: height 8.5, standoff -3, extent -15.621,0.889 -14.859,1.651
3D body: height 8.5, standoff -3, extent -15.621,-1.651 -14.859,-0.889
3D body: height 9, standoff 1, extent 19.304,-3.556 20.32,3.556
3D body: height 9, standoff 1, extent -20.32,-3.556 -19.304,3.556
3D body: height 9, standoff 1, extent -20.32,3.556 20.32,4.572
3D body: height 9, standoff 1, extent 2.032,-4.572 20.32,-3.556
3D body: height 9, standoff 1, extent -20.32,-4.572 -2.032,-3.556
3D body: height 1, standoff 0, extent -20.32,-4.572 20.32,4.572

## BH-28 [mm]
pads (28):
  rect 1.5x1.5 hole 1: 1(-16.51,-1.27)
  round 1.5 hole 1: 2(-16.51,1.27) 3(-13.97,-1.27) 4(-13.97,1.27) 5(-11.43,-1.27) 6(-11.43,1.27) 7(-8.89,-1.27) 8(-8.89,1.27) 9(-6.35,-1.27) 10(-6.35,1.27) 11(-3.81,-1.27) 12(-3.81,1.27) 13(-1.27,-1.27) 14(-1.27,1.27) 15(1.27,-1.27) 16(1.27,1.27) 17(3.81,-1.27) 18(3.81,1.27) 19(6.35,-1.27) 20(6.35,1.27) 21(8.89,-1.27) 22(8.89,1.27) 23(11.43,-1.27) 24(11.43,1.27) 25(13.97,-1.27) 26(13.97,1.27) 27(16.51,-1.27) 28(16.51,1.27)
Top Overlay:
  lines w0.2: -21.59,-4.572 -2.032,-4.572 -2.032,-3.556 2.032,-3.556 2.032,-4.572 21.59,-4.572 21.59,4.572 -21.59,4.572 -21.59,-4.572
Mechanical 13:
  lines w0.1: -22.352,-5.08 -22.352,5.08 22.352,5.08 22.352,-5.08 -22.352,-5.08
  text ".Designator" at -2.032,-1.016 h2
Mechanical 15:
  lines w0.05: -22.352,-5.08 22.352,-5.08 22.352,5.08 -22.352,5.08 -22.352,-5.08
  lines w0.1: -0.5,0 0.5,0 ; 0,-0.5 0,0.5
3D body: height 9, standoff 1, extent 20.574,-3.556 21.59,3.556
3D body: height 9, standoff 1, extent -21.59,-3.556 -20.574,3.556
3D body: height 9, standoff 1, extent -21.59,3.556 21.59,4.572
3D body: height 9, standoff 1, extent 2.032,-4.572 21.59,-3.556
3D body: height 9, standoff 1, extent -21.59,-4.572 -2.032,-3.556
3D body: height 1, standoff 0, extent -21.59,-4.572 21.59,4.572
3D body: height 8.5, standoff -3, extent -16.891,-1.651 -16.129,-0.889
3D body: height 8.5, standoff -3, extent -16.891,0.889 -16.129,1.651
3D body: height 8.5, standoff -3, extent -14.351,-1.651 -13.589,-0.889
3D body: height 8.5, standoff -3, extent -14.351,0.889 -13.589,1.651
3D body: height 8.5, standoff -3, extent -11.811,-1.651 -11.049,-0.889
3D body: height 8.5, standoff -3, extent -11.811,0.889 -11.049,1.651
3D body: height 8.5, standoff -3, extent -9.271,-1.651 -8.509,-0.889
3D body: height 8.5, standoff -3, extent -9.271,0.889 -8.509,1.651
3D body: height 8.5, standoff -3, extent -6.731,-1.651 -5.969,-0.889
3D body: height 8.5, standoff -3, extent -6.731,0.889 -5.969,1.651
3D body: height 8.5, standoff -3, extent -4.191,-1.651 -3.429,-0.889
3D body: height 8.5, standoff -3, extent -4.191,0.889 -3.429,1.651
3D body: height 8.5, standoff -3, extent -1.651,-1.651 -0.889,-0.889
3D body: height 8.5, standoff -3, extent -1.651,0.889 -0.889,1.651
3D body: height 8.5, standoff -3, extent 0.889,-1.651 1.651,-0.889
3D body: height 8.5, standoff -3, extent 0.889,0.889 1.651,1.651
3D body: height 8.5, standoff -3, extent 3.429,-1.651 4.191,-0.889
3D body: height 8.5, standoff -3, extent 3.429,0.889 4.191,1.651
3D body: height 8.5, standoff -3, extent 5.969,-1.651 6.731,-0.889
3D body: height 8.5, standoff -3, extent 5.969,0.889 6.731,1.651
3D body: height 8.5, standoff -3, extent 8.509,-1.651 9.271,-0.889
3D body: height 8.5, standoff -3, extent 8.509,0.889 9.271,1.651
3D body: height 8.5, standoff -3, extent 11.049,-1.651 11.811,-0.889
3D body: height 8.5, standoff -3, extent 11.049,0.889 11.811,1.651
3D body: height 8.5, standoff -3, extent 13.589,-1.651 14.351,-0.889
3D body: height 8.5, standoff -3, extent 13.589,0.889 14.351,1.651
3D body: height 8.5, standoff -3, extent 16.129,-1.651 16.891,-0.889
3D body: height 8.5, standoff -3, extent 16.129,0.889 16.891,1.651